# EAGLE library part TS5A3359DCUR (library TS5A3359)
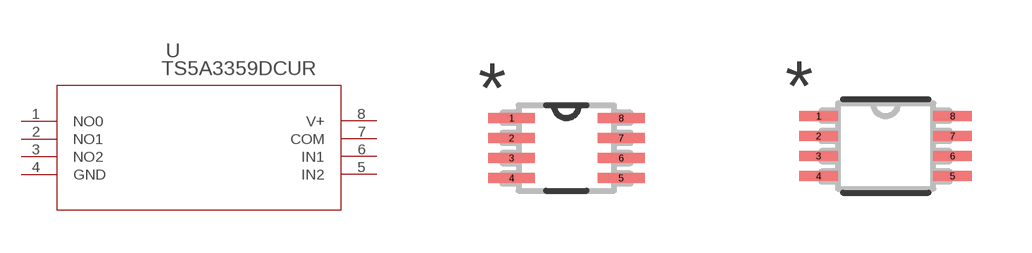
[diagram p0: symbol with the pads of DCU8; footprints DCU8, DCU8-M]

Designator prefix U

## TS5A3359DCUR (COPYRIGHT: Copyright (C) 2022 Ultra Librarian. All rights reserved.; MANUFACTURER_PART_NUMBER: TS5A3359DCUR; MFR_NAME: Texas Instruments)  [DCU8]
1  NO0  out
2  NO1  out
3  NO2  out
4  GND  pwr
5  IN2  in
6  IN1  in
7  COM  pas
8  V+  pwr

## TS5A3359DCURDCU8-M (COPYRIGHT: Copyright (C) 2022 Ultra Librarian. All rights reserved.; MANUFACTURER_PART_NUMBER: TS5A3359DCUR; MFR_NAME: Texas Instruments)  [DCU8-M]
Pads as for DCU8

## TS5A3359DCURDCU8-L (COPYRIGHT: Copyright (C) 2022 Ultra Librarian. All rights reserved.; MANUFACTURER_PART_NUMBER: TS5A3359DCUR; MFR_NAME: Texas Instruments)  [DCU8-L]
Pads as for DCU8

## Footprint DCU8 (pad centres in mm)
smd 1.168 x 0.254: 1 -1.372,0.75; 2 -1.372,0.25; 3 -1.372,-0.25; 4 -1.372,-0.75; 5 1.372,-0.75; 6 1.372,-0.25; 7 1.372,0.25; 8 1.372,0.75

## Footprint DCU8-M (pad centres in mm)
smd 0.965 x 0.254: 1 -1.676,0.75; 2 -1.676,0.25; 3 -1.676,-0.25; 4 -1.676,-0.75; 5 1.676,-0.75; 6 1.676,-0.25; 7 1.676,0.25; 8 1.676,0.75

## Footprint DCU8-L (pad centres in mm)
smd 0.559 x 0.203: 1 -1.473,0.75; 2 -1.473,0.25; 3 -1.473,-0.25; 4 -1.473,-0.75; 5 1.473,-0.75; 6 1.473,-0.25; 7 1.473,0.25; 8 1.473,0.75